# Altium footprint library jumpers_and_circuit_brakers.PcbLib: 23 footprints (part 2 of 2)
Each footprint in its own frame and in the unit in brackets; x right, y up, seen from the top. Pads: shape width x height; smd on the part's side, far side on the other; paste and mask are expansions set on the pad; w line width, h text height; cw(c..) or ccw(c..) is an arc to the next point about the centre after c.
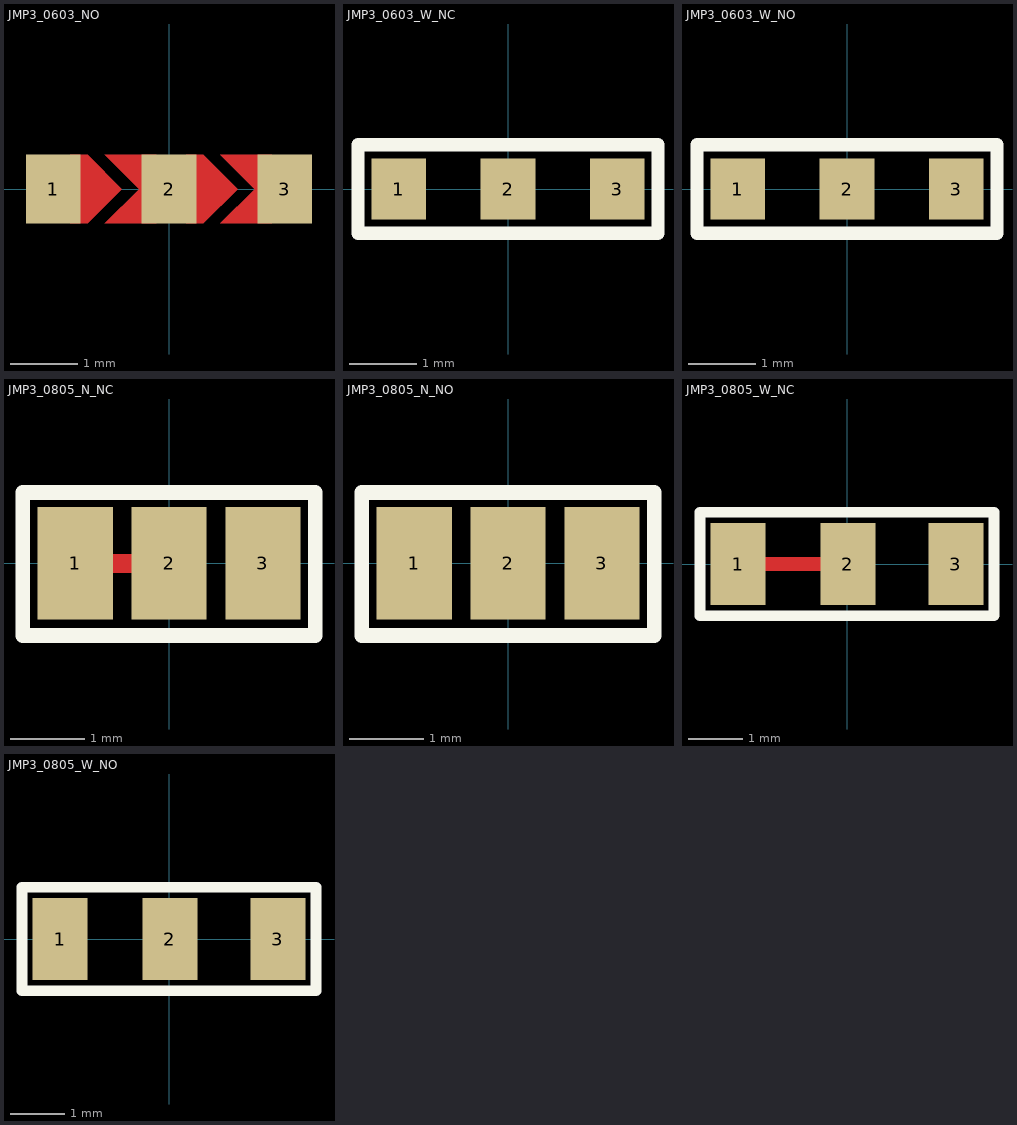
[diagram p1: the footprints below, top view; thin cyan lines are the x and y axes]

## JMP3_0603_NO [mil]
height 78.74
pads (3):
  rect 32x40 smd: 1(-67.5,0) 2(0,0) 3(67.5,0)
Top Layer:
  region: 60,0 50,0 30,20 60,20
  region: 60,0 50,0 30,-20 60,-20
  region: 10,-20 20,-20 40,0 20,20 10,20
  region: -7.5,0 -17.5,0 -37.5,-20 -7.5,-20
  region: -7.5,0 -17.5,0 -37.5,20 -7.5,20
  region: -57.5,-20 -47.5,-20 -27.5,0 -47.5,20 -57.5,20
Top Paste:
  region: -7.5,0 -17.5,0 -37.5,20 -7.5,20
  region: -7.5,0 -17.5,0 -37.5,-20 -7.5,-20
  region: -57.5,-20 -47.5,-20 -27.5,0 -47.5,20 -57.5,20
Top Solder:
  region: 60,0 46,0 22,-24 60,-24
  region: 60,0 46,0 22,24 60,24
  region: 10,-24 20,-24 44,0 20,24 10,24
  region: -7.5,0 -21.5,0 -45.5,24 -7.5,24
  region: -7.5,0 -21.5,0 -45.5,-24 -7.5,-24
  region: -57.5,-24 -47.5,-24 -23.5,0 -47.5,24 -57.5,24

## JMP3_0603_W_NC [mil]
pads (3):
  rect 32x36 smd: 1(-64,0) 2(0,0) 3(64,0)
Top Overlay:
  lines w7.87: -88,-26 -88,26 88,26 88,-26 -88,-26
3D body "User Library-0603 SMD Resistor.step": height 11.89, standoff 0, extent -63.49,-15.74 -0.5,15.75

## JMP3_0603_W_NO [mil]
pads (3):
  rect 32x36 smd: 1(-64,0) 2(0,0) 3(64,0)
Top Overlay:
  lines w7.87: -88,-26 -88,26 88,26 88,-26 -88,-26

## JMP3_0805_N_NC [mil]
height 49.21
pads (3):
  rect 40x60 smd: 1(-50,0) 2(0,0) 3(50,0)
Top Layer:
  lines w10: -50,0 0,0
Top Overlay:
  lines w7.87: -78,-38.39 -78,37.8 78,37.8 78,-38.39 -78,-38.39

## JMP3_0805_N_NO [mil]
height 49.21
pads (3):
  rect 40x60 smd: 1(-50,0) 2(0,0) 3(50,0)
Top Overlay:
  lines w7.87: -78,-38.39 -78,37.8 78,37.8 78,-38.39 -78,-38.39

## JMP3_0805_W_NC [mil]
height 49.21
pads (3):
  rect 40x60 smd: 1(-79.37,0) 2(0.63,0) 3(79.37,0)
Top Layer:
  lines w10: -80,0 0,0
Top Overlay:
  lines w7.87: 107.09,37.8 107.09,-37.6 106.89,-37.8 -107.09,-37.8 -107.09,37.8 107.28,37.8

## JMP3_0805_W_NO [mil]
height 49.21
pads (3):
  rect 40x60 smd: 1(-79.37,0) 2(0.63,0) 3(79.37,0)
Top Overlay:
  lines w7.87: 106.3,-37.8 -107.09,-37.8 -107.09,37.8 107.28,37.8 ; 107.09,-37.8 107.09,37.8